# Altium footprint library Nhu-Altium-Schematic-Lin.PcbLib: 59 footprints (part 1 of 4)
Each footprint in its own frame and in the unit in brackets; x right, y up, seen from the top. Pads: shape width x height; smd on the part's side, far side on the other; paste and mask are expansions set on the pad; w line width, h text height; cw(c..) or ccw(c..) is an arc to the next point about the centre after c.
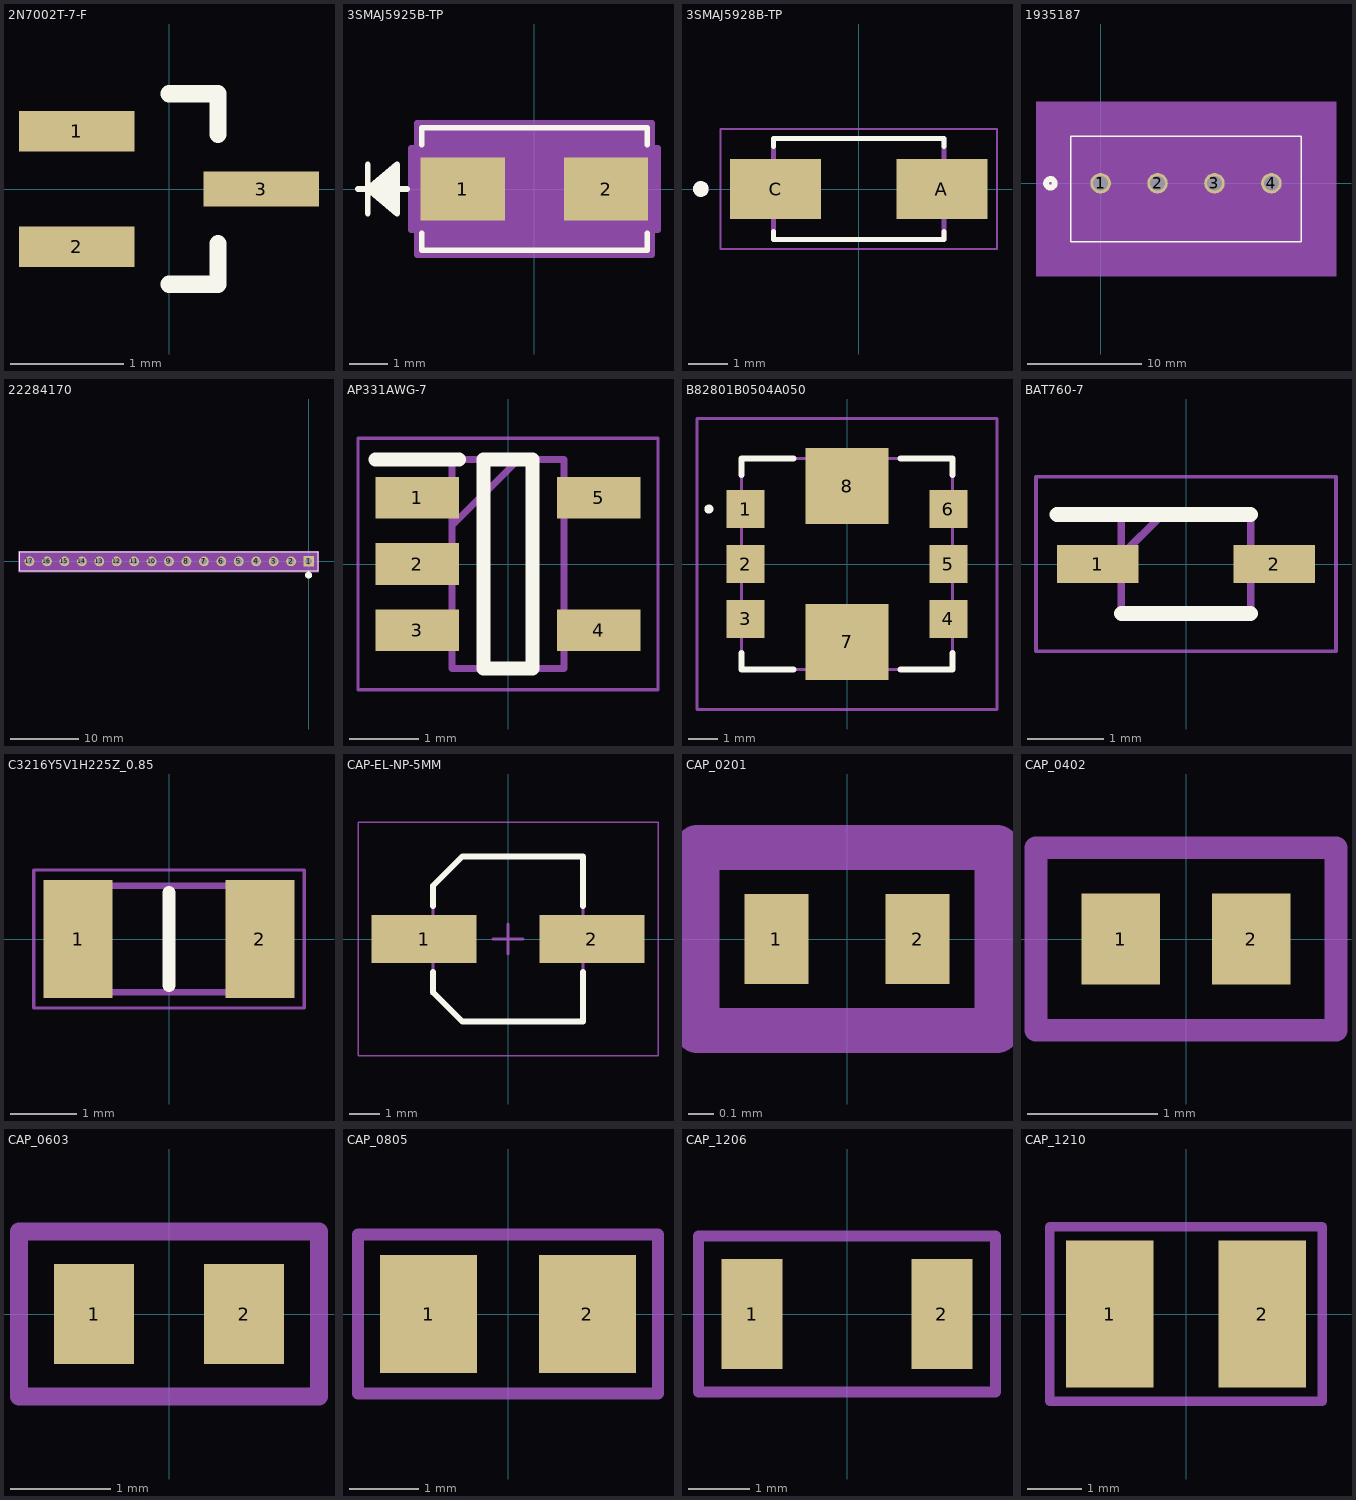
[diagram p0: the footprints below, top view; thin cyan lines are the x and y axes]

## 2N7002T-7-F [mil]
pads (3):
  rect 40x14 smd: 1(-32,20) 2(-32,-20)
  rect 40x12 smd: 3(32,0)
Top Overlay:
  lines w6: 0,-33 17,-33 17,-19 ; 0,33 12,33 17,33 17,19
3D body "2N7002T-7-F.STEP": height 31.5, standoff 0, extent -31.5,-31.5 31.5,31.5

## 3SMAJ5925B-TP [mil]
pads (2):
  rect 86x64 smd paste+0 mask+0: 1(-73,0) 2(73,0)
Top Overlay:
  lines w6: -180,0 -130,0 ; -170,-25 -170,25 ; -140,-20 -170,0 ; -140,-15 -170,0 ; -140,-10 -170,0 ; -140,-5 -170,0 ; -140,5 -170,0 ; -140,10 -170,0 ; -140,15 -170,0 ; -140,20 -170,0 ; -115,-45.1 -115,-62.5 115,-62.5 115,-45.1 ; -115,45.1 -115,62.5 115,62.5 115,45.1 ; -170,0 -140,-25 -140,25 -170,0
Mechanical 13:
  lines w1: -180,0 -130,0 ; -170,-25 -170,25 ; -140,-20 -170,0 ; -140,-15 -170,0 ; -140,-10 -170,0 ; -140,-5 -170,0 ; -140,5 -170,0 ; -140,10 -170,0 ; -140,15 -170,0 ; -140,20 -170,0 ; -170,0 -140,-25 -140,25 -170,0 ; -110,-57.5 -110,57.5 110,57.5 110,-57.5 -110,-57.5
Mechanical 15:
  region: -120,-42 -126,-42 -126,42 -120,42 -120,67.5 120,67.5 120,42 126,42 126,-42 120,-42 120,-67.5 -120,-67.5
  lines w6: -126,-42 -120,-42 -120,-67.5 120,-67.5 120,-42 126,-42 126,42 120,42 120,67.5 -120,67.5 -120,42 -126,42 -126,-42
3D body "ZDO_DO-214AC_SMA_LF_MCE.step": height 97.99, standoff 0, extent -110,-57.48 110,57.48

## 3SMAJ5928B-TP [mm]
height 2.44
pads (2):
  rect 2.33x1.55 smd: A(2.135,0) C(-2.135,0)
Top Overlay:
  circle w0.2: c-4.05,0 r0.1
  lines w0.127: -2.187,-1.095 -2.187,-1.292 2.187,-1.292 2.187,-1.095 ; -2.187,1.095 -2.187,1.292 2.187,1.292 2.187,1.095
Mechanical 13:
  circle w0.2: c-4.05,0 r0.1
  lines w0.127: -2.187,-1.292 -2.187,1.292 2.187,1.292 2.187,-1.292 -2.187,-1.292
Mechanical 15:
  lines w0.05: -3.55,-1.542 -3.55,1.542 3.55,1.542 3.55,-1.542 -3.55,-1.542
3D body "3SMAJ5928B-TP.step": height 2.4, standoff 0, extent -2.7,-1.778 2.7,1.922

## 1935187 [mil]
pads (4):
  round 71 hole 51 mask+0: 1(0,0) 2(196.85,0) 3(393.7,0) 4(590.55,0)
Top Overlay:
  circle w20: c-173.43,0 r15
  lines w6: -103.43,-201.85 693.98,-201.85 693.98,162.48 -103.43,162.48 -103.43,-201.85
Bottom Overlay:
  circle w20: c-173.43,0 r15
Mechanical 5:
  region: -223.43,282.48 813.98,282.48 813.98,-321.85 -223.43,-321.85
Mechanical 13:
  circle w20: c0,75 r15
  lines w1: -98.43,-196.85 688.98,-196.85 688.98,157.48 -98.43,157.48 -98.43,-196.85
Mechanical 15:
  region: 698.98,167.48 -108.43,167.48 -108.43,-206.85 698.98,-206.85
  lines w6: -108.43,-206.85 -108.43,167.48 698.98,167.48 698.98,-206.85 -108.43,-206.85
3D body: height 10, standoff 0, extent 0,0 10,10
3D body "1935187.stp": height 449.35, standoff -137.26, extent -99.92,-194.33 709.92,160

## 22284170 [mil]
pads (17):
  rect 60x60 / inner round 60 / far side rect 60x60 hole 38 paste-30 mask+0: 1(0,0)
  round 56 / inner round 60 / far side round 56 hole 36 paste-28 mask+0: 2(-100,0) 3(-200,0) 4(-300,0) 5(-400,0) 6(-500,0) 7(-600,0) 8(-700,0) 9(-800,0) 10(-900,0) 11(-1000,0) 12(-1100,0) 13(-1200,0) 14(-1300,0) 15(-1400,0) 16(-1500,0) 17(-1600,0)
Top Overlay:
  circle w20: c0,-79 r10
  lines w6: -1655,-54 55,-54 55,54 -1655,54 -1655,-54
Mechanical 13:
  circle w0: c0,-34 r10
  lines w1: -1650,-49 50,-49 50,49 -1650,49 -1650,-49
Mechanical 15:
  region: 60,59 -1660,59 -1660,-59 60,-59
  lines w6: -1660,-59 -1660,59 60,59 60,-59 -1660,-59
3D body "22-28-4170_MOL.step": height 450, standoff -200, extent -1650,-50 50,48.03

## AP331AWG-7 [mm]
pads (5):
  rect 1.2x0.6 smd: 1(-1.3,0.95) 2(-1.3,0) 3(-1.3,-0.95) 4(1.3,-0.95) 5(1.3,0.95)
Top Overlay:
  lines w0.2: -1.9,1.5 -0.7,1.5 ; -0.35,-1.5 -0.35,1.5 0.35,1.5 0.35,-1.5 -0.35,-1.5
Mechanical 13:
  lines w0.1: -0.8,0.55 0.15,1.5 ; -0.8,-1.5 -0.8,1.5 0.8,1.5 0.8,-1.5 -0.8,-1.5
Mechanical 15:
  lines w0.05: -2.15,-1.8 -2.15,1.8 2.15,1.8 2.15,-1.8 -2.15,-1.8
3D body "AP331AWG-7.stp": height 1.3, standoff 0, extent -1.425,-1.5 1.425,1.5

## B82801B0504A050 [mm]
pads (8):
  rect 1.28x1.27 smd: 1(-3.41,1.85) 2(-3.41,0) 3(-3.41,-1.85) 4(3.41,-1.85) 5(3.41,0) 6(3.41,1.85)
  rect 2.8x2.555 smd: 7(0,-2.623) 8(0,2.623)
Top Overlay:
  lines w0.2: -3.555,-3 -3.555,-3.555 -1.8,-3.555 ; -3.555,3 -3.555,3.555 -1.8,3.555 ; 1.8,-3.555 3.555,-3.555 3.555,-3 ; 1.8,3.555 3.555,3.555 3.555,3 ; -4.7,1.85 cw(c-4.65,1.85) -4.6,1.85 ; -4.7,1.85 ccw(c-4.65,1.85) -4.6,1.85 ; -4.7,1.85 -4.6,1.85
Mechanical 13:
  lines w0.1: -3.555,-3.555 -3.555,3.555 3.555,3.555 3.555,-3.555 -3.555,-3.555
Mechanical 15:
  lines w0.1: -5.05,-4.901 -5.05,4.901 5.05,4.901 5.05,-4.901 -5.05,-4.901
3D body "B82801B0504A050.stp": height 5.05, standoff 0, extent -4.077,-3.05 4.077,3.05

## BAT760-7 [mm]
pads (2):
  rect 1.075x0.5 smd: 1(-1.162,0) 2(1.162,0)
Top Overlay:
  lines w0.2: -1.7,0.65 0.85,0.65 ; -0.85,-0.65 0.85,-0.65
Mechanical 13:
  lines w0.1: -0.85,0.112 -0.312,0.65 ; -0.85,-0.65 -0.85,0.65 0.85,0.65 0.85,-0.65 -0.85,-0.65
Mechanical 15:
  lines w0.05: -1.975,-1.15 -1.975,1.15 1.975,1.15 1.975,-1.15 -1.975,-1.15
3D body "BAT760-7.stp": height 1.2, standoff 0, extent -1.25,-0.65 1.25,0.65

## C3216Y5V1H225Z_0.85 [mm]
pads (2):
  rect 1.04x1.78 smd: 1(-1.37,0) 2(1.37,0)
Top Overlay:
  lines w0.2: 0,-0.7 0,0.7
Mechanical 13:
  lines w0.1: -1.6,-0.8 -1.6,0.8 1.6,0.8 1.6,-0.8 -1.6,-0.8
Mechanical 15:
  lines w0.05: -2.04,-1.04 -2.04,1.04 2.04,1.04 2.04,-1.04 -2.04,-1.04
3D body "GRM319R71H103KA01D.stp": height 0.95, standoff 0, extent -1.6,-0.8 1.6,0.8

## CAP-EL-NP-5MM [mm]
height 6.1
pads (2):
  rect 3.5x1.6 smd: 1(-2.8,0) 2(2.8,0)
Top Overlay:
  lines w0.2: -2.5,-1.1 -2.5,-1.775 -1.525,-2.75 2.5,-2.75 2.5,-1.1 ; -2.5,1.1 -2.5,1.775 -1.525,2.75 2.5,2.75 2.5,1.1
Mechanical 13:
  lines w0.1: -2.5,-1.775 -2.5,1.775 -1.525,2.75 2.5,2.75 2.5,-2.75 -1.525,-2.75 -2.5,-1.775
  text "'.Designator'" at -6.315,-1.4 h1
Mechanical 15:
  lines w0.05: -5,-3.9 5,-3.9 5,3.9 -5,3.9 -5,-3.9
  lines w0.1: -0.5,0 0.5,0 ; 0,-0.5 0,0.5
3D body "CAP-EL-NP-5MM.step": height 6.1, standoff 0, extent -2.65,-2.75 2.65,2.75

## CAP_0201 [mm]
pads (2):
  rect 0.25x0.35 smd mask+0.05: 1(-0.275,0) 2(0.275,0)
Mechanical 13:
  lines w0.175: -0.584,-0.356 -0.584,0.356 0.584,0.356 0.584,-0.356 -0.584,-0.356
  text "'.Designator'" at -5.665,-0.417 h1
3D body "C0201.stp": height 0.34, standoff 0.01, extent -0.315,-0.166 0.315,0.164

## CAP_0402 [mm]
pads (2):
  rect 0.6x0.7 smd: 1(-0.5,0) 2(0.5,0)
Mechanical 13:
  lines w0.175: -1.15,-0.7 1.15,-0.7 1.15,0.7 -1.15,0.7 -1.15,-0.7
  text "'.Designator'" at -5.665,-0.29 h1
3D body "C0402.step": height 0.37, standoff 0.01, extent -0.5,-0.265 0.5,0.265

## CAP_0603 [mm]
pads (2):
  rect 0.8x1 smd: 1(-0.75,0) 2(0.75,0)
Mechanical 13:
  lines w0.175: -1.5,-0.825 -1.5,0.825 1.5,0.825 1.5,-0.825 -1.5,-0.825
  text "'.Designator'" at -5.665,-0.417 h1
3D body "C0603.step": height 0.51, standoff 0.01, extent -0.8,-0.4 0.8,0.4

## CAP_0805 [mm]
pads (2):
  rect 1.4x1.7 smd: 1(-1.143,0) 2(1.143,0)
Mechanical 13:
  lines w0.175: -2.159,-1.143 -2.159,1.143 2.159,1.143 2.159,-1.143 -2.159,-1.143
  text "'.Designator'" at -5.665,-0.417 h1
3D body "C0805.stp": height 1.01, standoff 0.01, extent -1.15,-0.762 1.15,0.788

## CAP_1206 [mm]
pads (2):
  rect 1x1.8 smd: 1(-1.55,0) 2(1.55,0)
Mechanical 13:
  lines w0.175: -2.425,-1.275 -2.425,1.275 2.425,1.275 2.425,-1.275 -2.425,-1.275
  text "'.Designator'" at -5.665,-0.417 h1
3D body "C1206.step": height 0.94, standoff 0, extent -1.6,-0.8 1.6,0.8

## CAP_1210 [mm]
height 1.35
pads (2):
  rect 1.6x2.7 smd: 1(-1.4,0) 2(1.4,0)
Mechanical 13:
  lines w0.175: -2.5,-1.6 -2.5,1.6 2.5,1.6 2.5,-1.6 -2.5,-1.6
  text "'.Designator'" at -5.665,-0.417 h1
3D body "C1210.step": height 2.5, standoff 0, extent -1.6,-1.25 1.6,1.25